# EAGLE library part ESP32 (library ROBOT_LIBRARY)
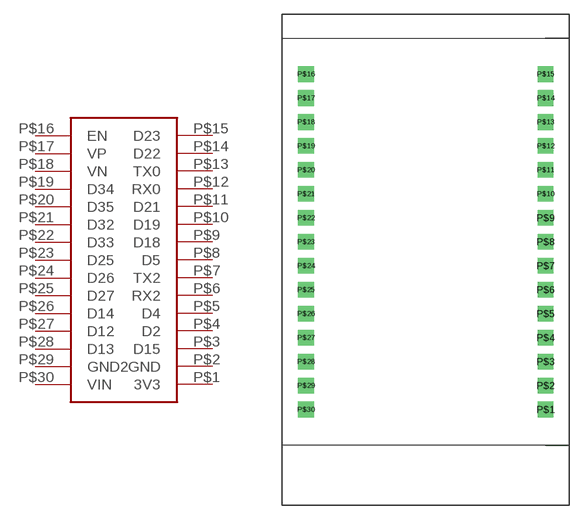
[diagram p0: symbol with the pads of ESP32; footprint ESP32]

Designator prefix -

## ESP32  [ESP32]
P$1  3V3
P$2  GND
P$3  D15
P$4  D2
P$5  D4
P$6  RX2
P$7  TX2
P$8  D5
P$9  D18
P$10  D19
P$11  D21
P$12  RX0
P$13  TX0
P$14  D22
P$15  D23
P$16  EN
P$17  VP
P$18  VN
P$19  D34
P$20  D35
P$21  D32
P$22  D33
P$23  D25
P$24  D26
P$25  D27
P$26  D14
P$27  D12
P$28  D13
P$29  GND2
P$30  VIN

## Footprint ESP32 (pad centres in mm)
drill 0.7 pad 1.676 square: P$1 2.54,0; P$2 2.54,2.54; P$3 2.54,5.08; P$4 2.54,7.62; P$5 2.54,10.16; P$6 2.54,12.7; P$7 2.54,15.24; P$8 2.54,17.78; P$9 2.54,20.32; P$10 2.54,22.86; P$11 2.54,25.4; P$12 2.54,27.94; P$13 2.54,30.48; P$14 2.54,33.02; P$15 2.54,35.56; P$16 -22.86,35.56; P$17 -22.86,33.02; P$18 -22.86,30.48; P$19 -22.86,27.94; P$20 -22.86,25.4; P$21 -22.86,22.86; P$22 -22.86,20.32; P$23 -22.86,17.78; P$24 -22.86,15.24; P$25 -22.86,12.7; P$26 -22.86,10.16; P$27 -22.86,7.62; P$28 -22.86,5.08; P$29 -22.86,2.54; P$30 -22.86,0